# EAGLE library part LME49830 (library Audio-Power-amlifier V.2.0)
The LME49830 is a high fidelity audio power amplifier input stage designed for demanding consumer and proaudio applications. Amplifier output power may be scaled by changing the supply voltage and number of output devices. The LME49830 is capable of driving an output stage in excess of 300 W single-ended into an 8Ω load in the presence of 10% high line headroom and 20% supply regulation. The LME49830 includes internal thermal shut down circuitry that activates when the LME49830 die temperature exceeds 150°C. The LME49830 has a mute function that mutes the input drive signal and forces the amplifier output to a quiescent state. The LME49830 has high drive current, 56mA typical, and high output voltage swing for maximum flexibility in output stage choice. With a bias voltage range up to 16V the LME49830 can be used to drive MOSFET output stages using a wide selection of MOSFETs.
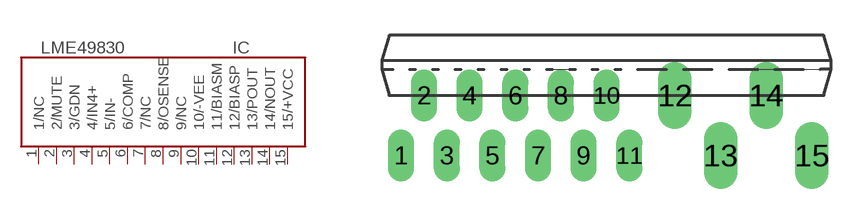
[diagram p182: symbol with the pads of PFM-TB15A; footprint PFM-TB15A]

Designator prefix IC

## LME49830  [PFM-TB15A]
1  1/NC  nc
2  2/MUTE  in
3  3/GDN  pwr
4  4/IN4+  in
5  5/IN-  in
6  6/COMP  in
7  7/NC  nc
8  8/OSENSE  out
9  9/NC  nc
10  10/-VEE  pwr
11  11/BIASM
12  12/BIASP
13  13/POUT  out
14  14/NOUT  out
15  15/+VCC  pwr

## Footprint PFM-TB15A (pad centres in mm)
www.ti.com/audio
drill 0.6 long: 1 -8.685,-2.54; 2 -7.72,-0.001; 3 -6.754,-2.54; 4 -5.789,-0.001; 5 -4.824,-2.541; 6 -3.859,-0.001; 7 -2.894,-2.541; 8 -1.929,-0.001; 9 -0.964,-2.541; 10 0.001,-0.001; 11 0.966,-2.541
drill 0.6 pad 1.422 long: 12 2.896,-0.001; 13 4.826,-2.541; 14 6.756,-0.001; 15 8.686,-2.542